# EAGLE library part LM27762?* (library LM27762)
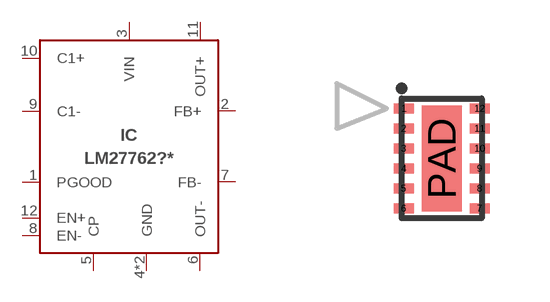
[diagram p0: symbol with the pads of WSON-12; footprint WSON-12]

Designator prefix IC

## LM27762DSSR (MARK: L27762; MF: Texas Instruments; MPN: LM27762DSSR), LM27762DSST (MARK: L27762; MF: Texas Instruments; MPN: LM27762DSST)  [WSON-12]
1  PGOOD  oc
2  FB+  in
3  VIN  pwr
4  GND  pwr
5  CP
6  OUT-  out
7  FB-  in
8  EN-  in
9  C1-
10  C1+
11  OUT+  out
12  EN+  in
PAD  GND  pwr

## Footprint WSON-12 (pad centres in mm)
smd 0.5 x 0.25: 1 -0.95,1.25; 2 -0.95,0.75; 3 -0.95,0.25; 4 -0.95,-0.25; 5 -0.95,-0.75; 6 -0.95,-1.25; 7 0.95,-1.25; 8 0.95,-0.75; 9 0.95,-0.25; 10 0.95,0.25; 11 0.95,0.75; 12 0.95,1.25
smd 1 x 2.65: PAD 0,0